# Altium schematic symbol library 2SCR514RTL.SchLib: 1 symbol
Pins are listed as number, name and electrical type; pins without a type are passive.

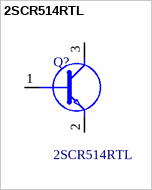
[diagram p0: symbol 2SCR514RTL]

## 2SCR514RTL
designator Q?
NPN, SOT-346T, 80V 0.7A, Driver Transistor; Manufacturer_Name: ROHM Semiconductor; Geometry.Height: 1mm; Mouser Part Number: 755-2SCR514RTL; Mouser Price/Stock: https://www.mouser.co.uk/ProductDetail/ROHM-Semiconductor/2SCR514RTL?qs=%2FKR40Cd6GUphgPCgvqkTFQ%3D%3D; Manufacturer_Part_Number: 2SCR514RTL; Datasheet Link: https://fscdn.rohm.com/en/products/databook/datasheet/discrete/transistor/bipolar/2scr514rtl-e.pdf
footprint 2SCR514RTL
pins: 1 B, 2 E, 3 C